# Altium schematic symbol library ATT.SchLib: 2 symbols
Pins are listed as number, name and electrical type; pins without a type are passive.

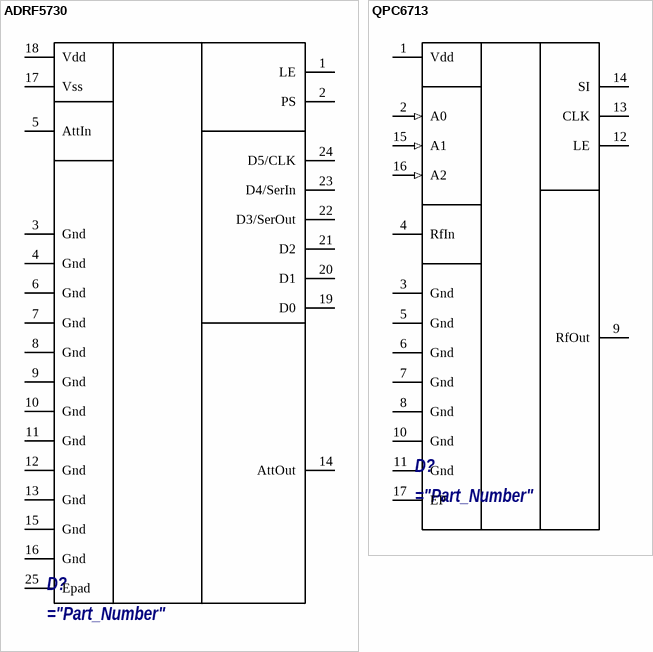
[diagram p0: symbols ADRF5730 to QPC6713]

## ADRF5730
designator D?
="Description"
pins: 1 LE, 2 PS, 3 Gnd, 4 Gnd, 5 AttIn, 6 Gnd, 7 Gnd, 8 Gnd, 9 Gnd, 10 Gnd, 11 Gnd, 12 Gnd, 13 Gnd, 14 AttOut, 15 Gnd, 16 Gnd, 17 Vss, 18 Vdd, 19 D0, 20 D1, 21 D2, 22 D3/SerOut, 23 D4/SerIn, 24 D5/CLK, 25 Epad

## QPC6713
designator D?
="Description"
pins: 1 Vdd, 2 A0 (in), 3 Gnd, 4 RfIn, 5 Gnd, 6 Gnd, 7 Gnd, 8 Gnd, 9 RfOut, 10 Gnd, 11 Gnd, 12 LE, 13 CLK, 14 SI, 15 A1 (in), 16 A2 (in), 17 EP